# Altium footprint library SparkFun-Aesthetics.PCBLIB: 96 footprints (part 2 of 6)
Each footprint in its own frame and in the unit in brackets; x right, y up, seen from the top. Pads: shape width x height; smd on the part's side, far side on the other; paste and mask are expansions set on the pad; w line width, h text height; cw(c..) or ccw(c..) is an arc to the next point about the centre after c.
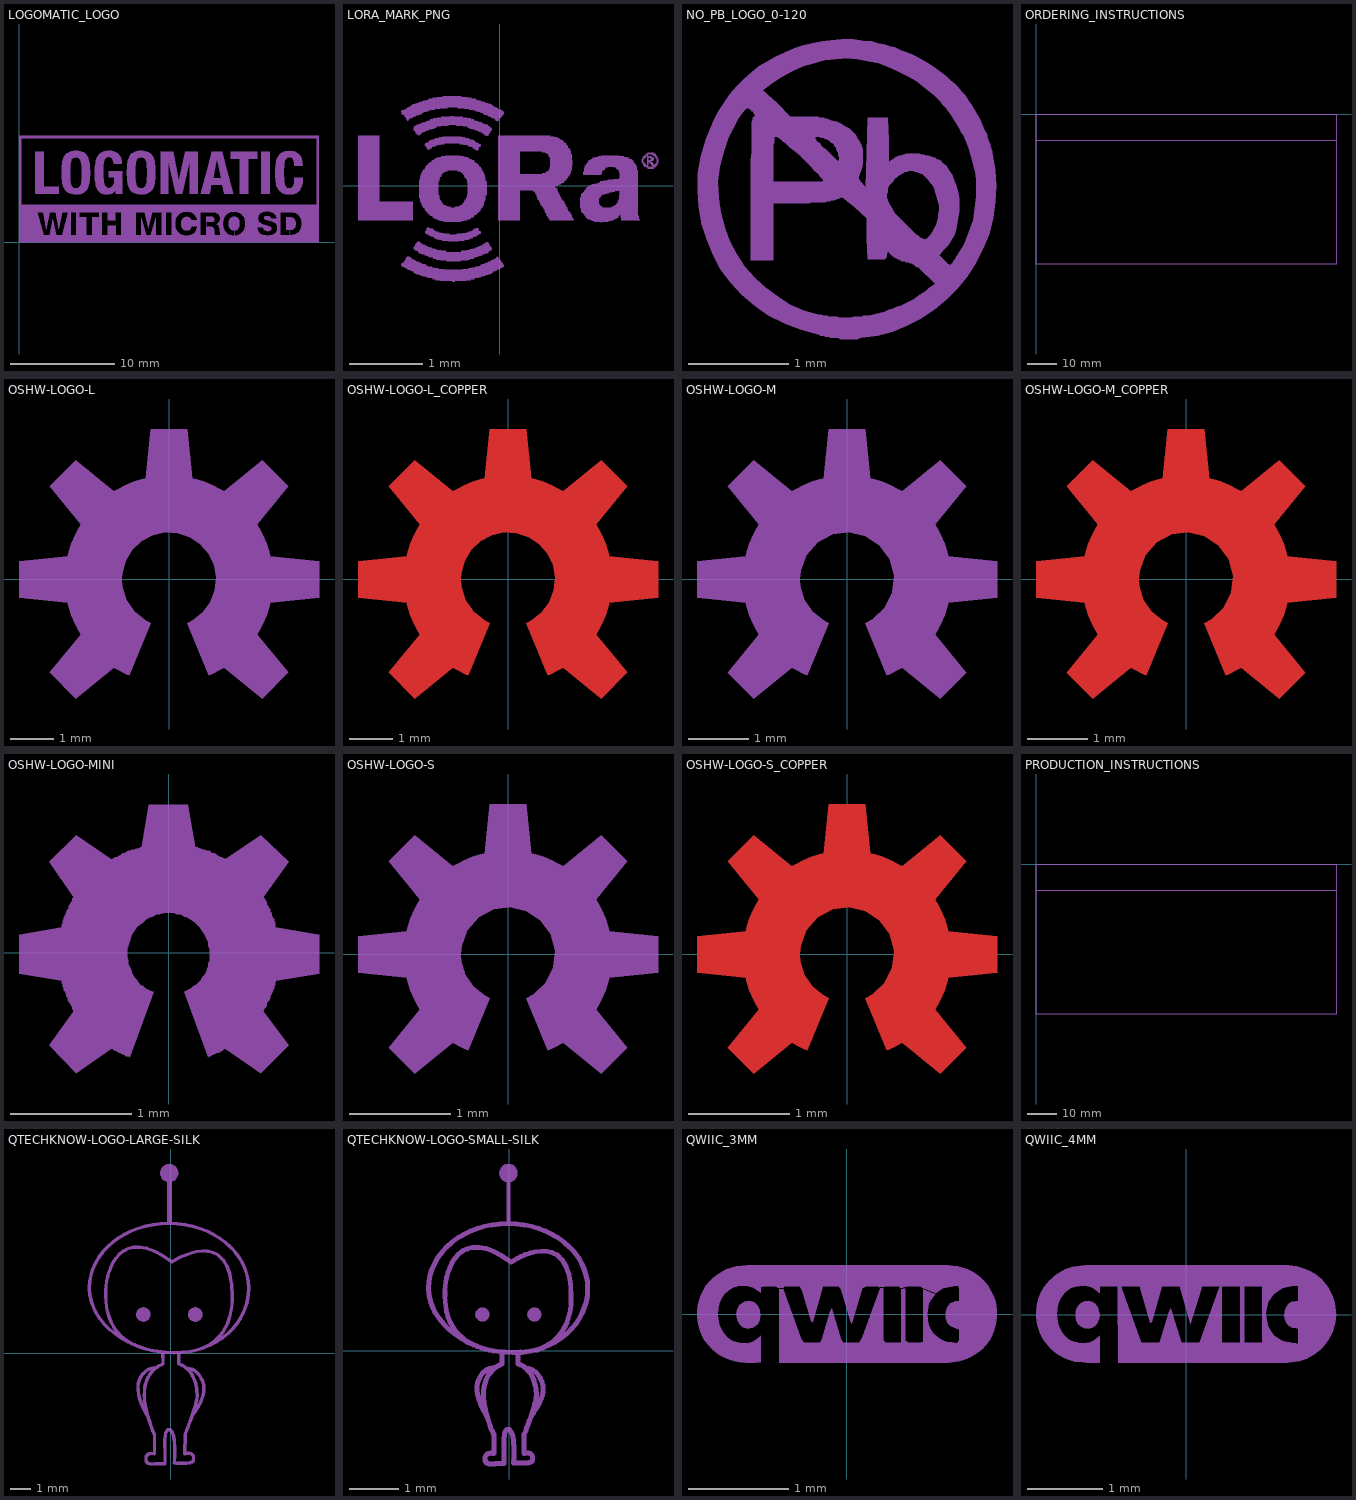
[diagram p1: the footprints below, top view; thin cyan lines are the x and y axes]

## LOGOMATIC_LOGO [mm]
tPlace:
  drawing of 15 lines, arcs and shapes, not listed

## LORA_MARK_PNG [mm]
tPlace:
  drawing of 785 lines, arcs and shapes, not listed

## NO_PB_LOGO_0-120 [mm]
tPlace:
  drawing of 6 lines, arcs and shapes, not listed

## ORDERING_INSTRUCTIONS [mm]
tDocu:
  lines w0.203: 0,-8.89 0,-50.8 101.6,-50.8 101.6,-8.89 ; 0,-8.89 0,0 101.6,0 101.6,-8.89 ; 0,-8.89 101.6,-8.89
  text "Ordering Instructions:" at 1.27,-1.27 h2.59
  text "(Add these comments when uploading gerbers.)" at 1.27,-6.35 h1.51

## OSHW-LOGO-L [mm]
tPlace:
  region: 0.921,-2.223 0.967,-2.204 1.058,-2.162 1.146,-2.116 1.233,-2.067 1.275,-2.041 2.155,-2.758 2.758,-2.155 2.041,-1.275 2.094,-1.19 2.185,-1.013 2.261,-0.829 2.322,-0.639 2.345,-0.541 3.474,-0.426 3.474,0.426 2.345,0.541 2.322,0.639 2.261,0.829 2.185,1.013 2.094,1.19 2.041,1.275 2.758,2.155 2.155,2.758 1.275,2.041 1.19,2.094 1.013,2.185 0.829,2.261 0.639,2.322 0.541,2.345 0.426,3.474 -0.426,3.474 -0.541,2.345 -0.639,2.322 -0.829,2.261 -1.013,2.185 -1.19,2.094 -1.275,2.041 -2.155,2.758 -2.758,2.155 -2.041,1.275 -2.094,1.19 -2.185,1.013 -2.261,0.829 -2.322,0.639 -2.345,0.541 -3.474,0.426 -3.474,-0.426 -2.345,-0.541 -2.322,-0.639 -2.261,-0.829 -2.185,-1.013 -2.094,-1.19 -2.041,-1.275 -2.758,-2.155 -2.155,-2.758 -1.275,-2.041 -1.233,-2.067 -1.146,-2.116 -1.058,-2.162 -0.967,-2.204 -0.921,-2.223 -0.419,-1.01 -0.562,-0.938 -0.81,-0.734 -0.989,-0.468 -1.082,-0.16 -1.094,0 -1.084,0.147 -1.005,0.431 -0.854,0.683 -0.641,0.886 -0.381,1.025 -0.094,1.09 0.2,1.075 0.48,0.983 0.724,0.819 0.917,0.596 1.043,0.33 1.093,0.04 1.064,-0.253 0.958,-0.527 0.783,-0.764 0.551,-0.945 0.419,-1.01

## OSHW-LOGO-L_COPPER [mm]
Top:
  region: 0.921,-2.223 0.967,-2.204 1.058,-2.162 1.146,-2.116 1.233,-2.067 1.275,-2.041 2.155,-2.758 2.758,-2.155 2.041,-1.275 2.094,-1.19 2.185,-1.013 2.261,-0.829 2.322,-0.639 2.345,-0.541 3.474,-0.426 3.474,0.426 2.345,0.541 2.322,0.639 2.261,0.829 2.185,1.013 2.094,1.19 2.041,1.275 2.758,2.155 2.155,2.758 1.275,2.041 1.19,2.094 1.013,2.185 0.829,2.261 0.639,2.322 0.541,2.345 0.426,3.474 -0.426,3.474 -0.541,2.345 -0.639,2.322 -0.829,2.261 -1.013,2.185 -1.19,2.094 -1.275,2.041 -2.155,2.758 -2.758,2.155 -2.041,1.275 -2.094,1.19 -2.185,1.013 -2.261,0.829 -2.322,0.639 -2.345,0.541 -3.474,0.426 -3.474,-0.426 -2.345,-0.541 -2.322,-0.639 -2.261,-0.829 -2.185,-1.013 -2.094,-1.19 -2.041,-1.275 -2.758,-2.155 -2.155,-2.758 -1.275,-2.041 -1.233,-2.067 -1.146,-2.116 -1.058,-2.162 -0.967,-2.204 -0.921,-2.223 -0.419,-1.01 -0.562,-0.938 -0.81,-0.734 -0.989,-0.468 -1.082,-0.16 -1.094,0 -1.084,0.147 -1.005,0.431 -0.854,0.683 -0.641,0.886 -0.381,1.025 -0.094,1.09 0.2,1.075 0.48,0.983 0.724,0.819 0.917,0.596 1.043,0.33 1.093,0.04 1.064,-0.253 0.958,-0.527 0.783,-0.764 0.551,-0.945 0.419,-1.01

## OSHW-LOGO-M [mm]
tPlace:
  region: 0.658,-1.588 0.691,-1.574 0.755,-1.544 0.819,-1.512 0.881,-1.477 0.911,-1.458 1.539,-1.97 1.97,-1.539 1.458,-0.911 1.495,-0.85 1.561,-0.724 1.615,-0.592 1.659,-0.456 1.675,-0.387 2.481,-0.305 2.481,0.305 1.675,0.387 1.659,0.456 1.615,0.592 1.561,0.724 1.495,0.85 1.458,0.911 1.97,1.539 1.539,1.97 0.911,1.458 0.85,1.495 0.724,1.561 0.592,1.615 0.456,1.659 0.387,1.675 0.305,2.481 -0.305,2.481 -0.387,1.675 -0.456,1.659 -0.592,1.615 -0.724,1.561 -0.85,1.495 -0.911,1.458 -1.539,1.97 -1.97,1.539 -1.458,0.911 -1.495,0.85 -1.561,0.724 -1.615,0.592 -1.659,0.456 -1.675,0.387 -2.481,0.305 -2.481,-0.305 -1.675,-0.387 -1.659,-0.456 -1.615,-0.592 -1.561,-0.724 -1.495,-0.85 -1.458,-0.911 -1.97,-1.539 -1.539,-1.97 -0.911,-1.458 -0.881,-1.477 -0.819,-1.512 -0.755,-1.544 -0.691,-1.574 -0.658,-1.588 -0.299,-0.722 -0.402,-0.67 -0.579,-0.525 -0.706,-0.334 -0.773,-0.115 -0.781,0 -0.769,0.14 -0.67,0.402 -0.486,0.612 -0.239,0.744 0.038,0.78 0.311,0.717 0.543,0.561 0.706,0.334 0.779,0.064 0.751,-0.215 0.628,-0.465 0.423,-0.657 0.299,-0.722

## OSHW-LOGO-M_COPPER [mm]
Top:
  region: 0.658,-1.588 0.691,-1.574 0.755,-1.544 0.819,-1.512 0.881,-1.477 0.911,-1.458 1.539,-1.97 1.97,-1.539 1.458,-0.911 1.495,-0.85 1.561,-0.724 1.615,-0.592 1.659,-0.456 1.675,-0.387 2.481,-0.305 2.481,0.305 1.675,0.387 1.659,0.456 1.615,0.592 1.561,0.724 1.495,0.85 1.458,0.911 1.97,1.539 1.539,1.97 0.911,1.458 0.85,1.495 0.724,1.561 0.592,1.615 0.456,1.659 0.387,1.675 0.305,2.481 -0.305,2.481 -0.387,1.675 -0.456,1.659 -0.592,1.615 -0.724,1.561 -0.85,1.495 -0.911,1.458 -1.539,1.97 -1.97,1.539 -1.458,0.911 -1.495,0.85 -1.561,0.724 -1.615,0.592 -1.659,0.456 -1.675,0.387 -2.481,0.305 -2.481,-0.305 -1.675,-0.387 -1.659,-0.456 -1.615,-0.592 -1.561,-0.724 -1.495,-0.85 -1.458,-0.911 -1.97,-1.539 -1.539,-1.97 -0.911,-1.458 -0.881,-1.477 -0.819,-1.512 -0.755,-1.544 -0.691,-1.574 -0.658,-1.588 -0.299,-0.722 -0.402,-0.67 -0.579,-0.525 -0.706,-0.334 -0.773,-0.115 -0.781,0 -0.769,0.14 -0.67,0.402 -0.486,0.612 -0.239,0.744 0.038,0.78 0.311,0.717 0.543,0.561 0.706,0.334 0.779,0.064 0.751,-0.215 0.628,-0.465 0.423,-0.657 0.299,-0.722

## OSHW-LOGO-MINI [mm]
tPlace:
  drawing of 1 lines, arcs and shapes, not listed

## OSHW-LOGO-S [mm]
tPlace:
  region: 0.395,-0.953 0.414,-0.945 0.453,-0.927 0.491,-0.907 0.528,-0.886 0.547,-0.875 0.924,-1.182 1.182,-0.924 0.875,-0.547 0.897,-0.51 0.936,-0.434 0.969,-0.355 0.995,-0.274 1.005,-0.232 1.489,-0.183 1.489,0.183 1.005,0.232 0.995,0.274 0.969,0.355 0.936,0.434 0.897,0.51 0.875,0.547 1.182,0.924 0.924,1.182 0.547,0.875 0.51,0.897 0.434,0.936 0.355,0.969 0.274,0.995 0.232,1.005 0.183,1.489 -0.183,1.489 -0.232,1.005 -0.274,0.995 -0.355,0.969 -0.434,0.936 -0.51,0.897 -0.547,0.875 -0.924,1.182 -1.182,0.924 -0.875,0.547 -0.897,0.51 -0.936,0.434 -0.969,0.355 -0.995,0.274 -1.005,0.232 -1.489,0.183 -1.489,-0.183 -1.005,-0.232 -0.995,-0.274 -0.969,-0.355 -0.936,-0.434 -0.897,-0.51 -0.875,-0.547 -1.182,-0.924 -0.924,-1.182 -0.547,-0.875 -0.528,-0.886 -0.491,-0.907 -0.453,-0.927 -0.414,-0.945 -0.395,-0.953 -0.179,-0.433 -0.241,-0.402 -0.347,-0.315 -0.424,-0.2 -0.464,-0.069 -0.469,0 -0.461,0.084 -0.402,0.241 -0.292,0.367 -0.144,0.446 0.023,0.468 0.186,0.43 0.326,0.337 0.424,0.2 0.467,0.038 0.451,-0.129 0.376,-0.279 0.254,-0.394 0.179,-0.433

## OSHW-LOGO-S_COPPER [mm]
Top:
  region: 0.395,-0.953 0.414,-0.945 0.453,-0.927 0.491,-0.907 0.528,-0.886 0.547,-0.875 0.924,-1.182 1.182,-0.924 0.875,-0.547 0.897,-0.51 0.936,-0.434 0.969,-0.355 0.995,-0.274 1.005,-0.232 1.489,-0.183 1.489,0.183 1.005,0.232 0.995,0.274 0.969,0.355 0.936,0.434 0.897,0.51 0.875,0.547 1.182,0.924 0.924,1.182 0.547,0.875 0.51,0.897 0.434,0.936 0.355,0.969 0.274,0.995 0.232,1.005 0.183,1.489 -0.183,1.489 -0.232,1.005 -0.274,0.995 -0.355,0.969 -0.434,0.936 -0.51,0.897 -0.547,0.875 -0.924,1.182 -1.182,0.924 -0.875,0.547 -0.897,0.51 -0.936,0.434 -0.969,0.355 -0.995,0.274 -1.005,0.232 -1.489,0.183 -1.489,-0.183 -1.005,-0.232 -0.995,-0.274 -0.969,-0.355 -0.936,-0.434 -0.897,-0.51 -0.875,-0.547 -1.182,-0.924 -0.924,-1.182 -0.547,-0.875 -0.528,-0.886 -0.491,-0.907 -0.453,-0.927 -0.414,-0.945 -0.395,-0.953 -0.179,-0.433 -0.241,-0.402 -0.347,-0.315 -0.424,-0.2 -0.464,-0.069 -0.469,0 -0.461,0.084 -0.402,0.241 -0.292,0.367 -0.144,0.446 0.023,0.468 0.186,0.43 0.326,0.337 0.424,0.2 0.467,0.038 0.451,-0.129 0.376,-0.279 0.254,-0.394 0.179,-0.433

## PRODUCTION_INSTRUCTIONS [mm]
tDocu:
  lines w0.203: 0,-8.89 0,-50.8 101.6,-50.8 101.6,-8.89 ; 0,-8.89 0,0 101.6,0 101.6,-8.89 ; 0,-8.89 101.6,-8.89
  text "Production Instructions:" at 1.27,-1.27 h2.59
  text "(Add these comments when uploading gerbers.)" at 1.27,-6.35 h1.51

## QTECHKNOW-LOGO-LARGE-SILK [mm]
tPlace:
  drawing of 317 lines, arcs and shapes, not listed

## QTECHKNOW-LOGO-SMALL-SILK [mm]
tPlace:
  drawing of 280 lines, arcs and shapes, not listed

## QWIIC_3MM [mm]
tPlace:
  drawing of 2 lines, arcs and shapes, not listed

## QWIIC_4MM [mm]
tPlace:
  drawing of 2 lines, arcs and shapes, not listed